# Altium schematic symbol library K 壳体.SCHLIB: 3 symbols
Pins are listed as number, name and electrical type; pins without a type are passive.

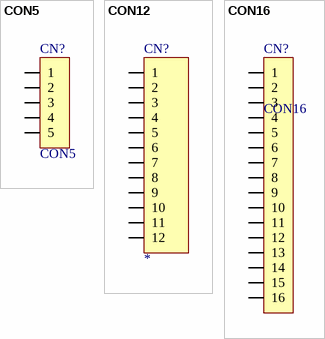
[diagram p0: symbols CON5 to CON16]

## CON5
designator CN?
쌈꿨숭
pins: 1, 2, 3, 4, 5

## CON12
designator CN?
쌈꿨숭
pins: 1, 2, 3, 4, 5, 6, 7, 8, 9, 10, 11, 12

## CON16
designator CN?
pins: 1, 2, 3, 4, 5, 6, 7, 8, 9, 10, 11, 12, 13, 14, 15, 16